# Altium footprint library IN3ATOR.PcbLib: 42 footprints (part 3 of 3)
Each footprint in its own frame and in the unit in brackets; x right, y up, seen from the top. Pads: shape width x height; smd on the part's side, far side on the other; paste and mask are expansions set on the pad; w line width, h text height; cw(c..) or ccw(c..) is an arc to the next point about the centre after c.
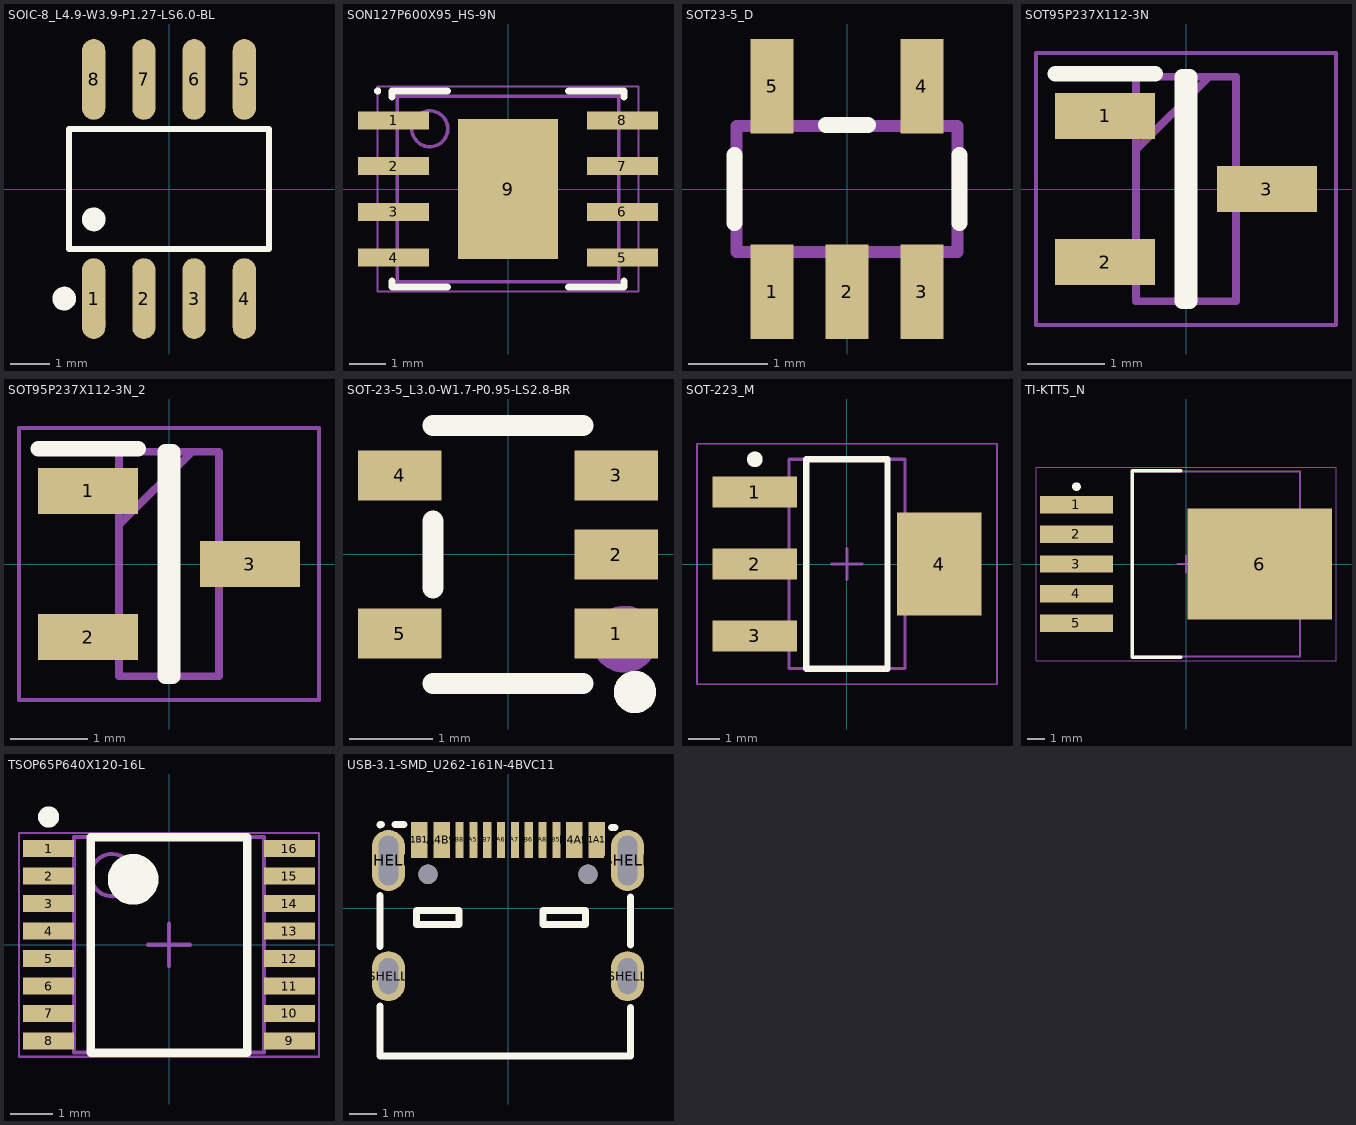
[diagram p2: the footprints below, top view; thin cyan lines are the x and y axes]

## SOIC-8_L4.9-W3.9-P1.27-LS6.0-BL [mm]
pads (8):
  oval 0.588x2.045 smd: 1(-1.905,-2.773) 2(-0.635,-2.773) 3(0.635,-2.773) 4(1.905,-2.773) 5(1.905,2.773) 6(0.635,2.773) 7(-0.635,2.773) 8(-1.905,2.773)
Top Overlay:
  circle w0.3: c-2.652,-2.772 r0.15
  circle w0.3: c-1.905,-0.769 r0.15
  lines w0.152: -2.526,-1.521 2.526,-1.521 2.526,1.521 -2.526,1.521 -2.526,-1.521
Mechanical 15:
  circle w0.3: c-1.905,-3.4 r0.15

## SON127P600X95_HS-9N [mm]
pads (9):
  rect 1.976x0.5 smd: 1(-3.183,1.905) 2(-3.183,0.635) 3(-3.183,-0.635) 4(-3.183,-1.905) 5(3.183,-1.905) 6(3.183,-0.635) 7(3.183,0.635) 8(3.183,1.905)
  rect 2.77x3.9 smd paste-1.385: 9(0,0)
Top Overlay:
  circle w0.1: c-3.625,2.725 r0.05
  lines w0.2: -3.225,-2.555 -3.225,-2.725 -1.685,-2.725 ; -3.225,2.555 -3.225,2.725 -1.685,2.725 ; 1.685,-2.725 3.225,-2.725 3.225,-2.555 ; 1.685,2.725 3.225,2.725 3.225,2.555
Top Paste:
  rectangle: -1.29,0.75 -0.1,1.85
  rectangle: -1.29,-0.55 -0.1,0.55
  rectangle: -1.29,-1.85 -0.1,-0.75
  rectangle: 0.1,0.75 1.29,1.85
  rectangle: 0.1,-0.55 1.29,0.55
  rectangle: 0.1,-1.85 1.29,-0.75
Mechanical 13:
  circle w0.1: c-2.175,1.675 r0.5
  lines w0.1: -3.075,-2.575 -3.075,2.575 3.075,2.575 3.075,-2.575 -3.075,-2.575
Mechanical 15:
  lines w0.05: -3.63,-2.85 -3.63,2.85 3.63,2.85 3.63,-2.85 -3.63,-2.85
  lines w0.1: -0.5,0 0.5,0 ; 0,-0.5 0,0.5
3D body: height 0.95, standoff 0.05, extent -3.075,-2.575 3.075,2.575

## SOT23-5_D [mm]
pads (5):
  rect 0.55x1.2 smd: 1(-0.95,-1.3) 2(0,-1.3) 3(0.95,-1.3) 4(0.95,1.3) 5(-0.95,1.3)
Top Overlay:
  lines w0.203: -1.422,-0.43 -1.422,0.43 ; -0.268,0.811 0.268,0.811 ; 1.422,-0.43 1.422,0.43
Mechanical 13:
  lines w0.152: -1.4,-0.8 1.4,-0.8 1.4,0.8 -1.4,0.8 -1.4,-0.8
3D body "SOT23-5_D.stp": height 1.45, standoff 0, extent -1.45,-1.356 1.45,1.356

## SOT95P237X112-3N [mm]
pads (3):
  rect 1.3x0.6 smd: 1(-1.05,0.95) 2(-1.05,-0.95) 3(1.05,0)
Top Overlay:
  lines w0.2: -1.7,1.5 -0.4,1.5 ; -0.05,-1.46 -0.05,1.46 0.05,1.46 0.05,-1.46 -0.05,-1.46
Mechanical 13:
  lines w0.1: -0.65,0.51 0.3,1.46 ; -0.65,-1.46 -0.65,1.46 0.65,1.46 0.65,-1.46 -0.65,-1.46
Mechanical 15:
  lines w0.05: -1.95,-1.77 -1.95,1.77 1.95,1.77 1.95,-1.77 -1.95,-1.77
3D body "IRLML6402TRPBF.stp": height 1.12, standoff 0, extent -1.185,-1.46 1.185,1.46

## SOT95P237X112-3N_2 [mm]
pads (3):
  rect 1.3x0.6 smd: 1(-1.05,0.95) 2(-1.05,-0.95) 3(1.05,0)
Top Overlay:
  lines w0.2: -1.7,1.5 -0.4,1.5 ; -0.05,-1.46 0.05,-1.46 0.05,1.46 -0.05,1.46 -0.05,-1.46
Mechanical 13:
  lines w0.1: -0.65,0.51 0.3,1.46 ; -0.65,-1.46 0.65,-1.46 0.65,1.46 -0.65,1.46 -0.65,-1.46
Mechanical 15:
  lines w0.05: -1.95,-1.77 1.95,-1.77 1.95,1.77 -1.95,1.77 -1.95,-1.77
3D body "IRLML6402TRPBF.stp": height 1.12, standoff 0, extent -1.185,-1.46 1.185,1.46

## SOT-23-5_L3.0-W1.7-P0.95-LS2.8-BR [mm]
pads (5):
  rect 1x0.6 smd: 1(1.3,-0.95) 2(1.3,0) 3(1.3,0.95) 4(-1.3,0.95) 5(-1.3,-0.95)
Top Overlay:
  circle w0.254: c1.524,-1.651 r0.127
  lines w0.254: -0.9,-1.55 0.9,-1.55 ; -0.9,-0.4 -0.9,0.4 ; -0.9,1.55 0.9,1.55
Mechanical 15:
  circle w0.4: c1.397,-1.016 r0.2

## SOT-223_M [mm]
pads (4):
  rect 2.7x1 smd: 1(-2.95,2.3) 2(-2.95,0) 3(-2.95,-2.3)
  rect 2.7x3.3 smd: 4(2.95,0)
Top Overlay:
  circle w0.25: c-2.95,3.35 r0.125
  lines w0.2: -1.3,-3.35 1.3,-3.35 1.3,3.35 -1.3,3.35 -1.3,-3.35
Mechanical 13:
  lines w0.1: -1.85,-3.35 1.85,-3.35 1.85,3.35 -1.85,3.35 -1.85,-3.35
Mechanical 15:
  lines w0.05: -4.8,-3.85 4.8,-3.85 4.8,3.85 -4.8,3.85 -4.8,-3.85
  lines w0.1: -0.5,0 0.5,0 ; 0,-0.5 0,0.5
3D body: height 1.8, standoff 0.02, extent -1.85,-3.35 1.85,3.35

## TI-KTT5_N [mm]
pads (6):
  rect 4.2x1 smd: 1(-6.3,3.4) 2(-6.3,1.7) 3(-6.3,0) 4(-6.3,-1.7) 5(-6.3,-3.4)
  rect 8.3x6.4 smd: 6(4.25,0)
Top Overlay:
  circle w0.25: c-6.3,4.45 r0.125
  lines w0.2: -0.3,-5.35 -3.1,-5.35 -3.1,5.35 -0.3,5.35
Mechanical 13:
  lines w0.1: -3.1,-5.325 6.55,-5.325 6.55,5.325 -3.1,5.325 -3.1,-5.325
Mechanical 15:
  lines w0.05: -8.625,-5.575 8.625,-5.575 8.625,5.575 -8.625,5.575 -8.625,-5.575
  lines w0.1: -0.5,0 0.5,0 ; 0,-0.5 0,0.5
3D body: height 4.83, standoff 0, extent -3.1,-5.325 6.55,5.325

## TSOP65P640X120-16L [mm]
pads (16):
  rect 1.2x0.4 smd: 1(-2.85,2.275) 2(-2.85,1.625) 3(-2.85,0.975) 4(-2.85,0.325) 5(-2.85,-0.325) 6(-2.85,-0.975) 7(-2.85,-1.625) 8(-2.85,-2.275) 9(2.85,-2.275) 10(2.85,-1.625) 11(2.85,-0.975) 12(2.85,-0.325) 13(2.85,0.325) 14(2.85,0.975) 15(2.85,1.625) 16(2.85,2.275)
Top Overlay:
  circle w0.6: c-0.85,1.55 r0.3
  circle w0.25: c-2.85,3.025 r0.125
  lines w0.2: -1.85,-2.55 1.85,-2.55 1.85,2.55 -1.85,2.55 -1.85,-2.55
Mechanical 13:
  circle w0.1: c-1.35,1.65 r0.5
  lines w0.1: -2.25,-2.55 2.25,-2.55 2.25,2.55 -2.25,2.55 -2.25,-2.55
Mechanical 15:
  lines w0.05: -3.55,-2.65 3.55,-2.65 3.55,2.65 -3.55,2.65 -3.55,-2.65
  lines w0.1: -0.5,0 0.5,0 ; 0,-0.5 0,0.5
3D body "16-TSSOP_SN74AVC4T245PWR.stp": height 1.13, standoff 0, extent -3.2,-2.5 3.2,2.5

## USB-3.1-SMD_U262-161N-4BVC11 [mm]
pads (18):
  rect 0.6x1.3 smd: A1B12(-3.2,2.461) A4B9(-2.4,2.461) B1A12(3.2,2.461) B4A9(2.4,2.461)
  rect 0.3x1.3 smd: A5(-1.25,2.461) A6(-0.25,2.461) A7(0.25,2.461) A8(1.25,2.461) B5(1.75,2.461) B6(0.75,2.461) B7(-0.75,2.461) B8(-1.75,2.461)
  oval 1.2x1.8 hole 0.7 slot 1.3 at 90 deg: SHELL(-4.32,-2.461) SHELL(4.32,-2.461)
  oval 1.2x2.2 hole 0.7 slot 1.8 at 90 deg: SHELL(-4.32,1.719) SHELL(4.32,1.719)
  round 0.7 hole 0.7 unplated: ""(-2.89,1.219) ""(2.89,1.219)
Top Overlay:
  lines w0.254: -4.62,-3.536 -4.62,-5.349 4.42,-5.349 4.42,-3.586 ; -4.62,-1.386 -4.62,0.444 ; -4.62,2.994 -4.62,3.011 -4.565,3.011 ; -4.075,3.011 -3.76,3.011 ; 3.74,2.911 3.862,2.911 ; 4.42,-1.336 4.42,0.394 ; -3.302,-0.597 -1.778,-0.597 -1.778,-0.089 -3.302,-0.089 -3.302,-0.597 ; 1.27,-0.597 2.794,-0.597 2.794,-0.089 1.27,-0.089 1.27,-0.597
Top Paste:
  region: 3.72,-2.161 3.72,-2.042 3.812,-1.822 3.98,-1.653 4.201,-1.561 4.44,-1.561 4.66,-1.653 4.829,-1.822 4.92,-2.042 4.92,-2.161 4.92,-2.761 4.92,-2.881 4.829,-3.101 4.66,-3.27 4.44,-3.361 4.201,-3.361 3.98,-3.27 3.812,-3.101 3.72,-2.881 3.72,-2.761
  region: -4.92,-2.161 -4.919,-2.043 -4.827,-1.823 -4.658,-1.656 -4.439,-1.565 -4.201,-1.565 -3.981,-1.656 -3.813,-1.823 -3.721,-2.043 -3.72,-2.161 -3.72,-2.761 -3.721,-2.88 -3.813,-3.099 -3.981,-3.267 -4.201,-3.357 -4.439,-3.357 -4.658,-3.267 -4.827,-3.099 -4.919,-2.88 -4.92,-2.761
  region: 3.72,2.219 3.72,2.338 3.812,2.559 3.98,2.727 4.201,2.819 4.44,2.819 4.66,2.727 4.829,2.559 4.92,2.338 4.92,2.219 4.92,1.219 4.92,1.099 4.829,0.879 4.66,0.71 4.44,0.619 4.201,0.619 3.98,0.71 3.812,0.879 3.72,1.099 3.72,1.219
  region: -4.92,2.219 -4.919,2.338 -4.827,2.557 -4.658,2.724 -4.439,2.815 -4.201,2.815 -3.981,2.724 -3.813,2.557 -3.721,2.338 -3.72,2.219 -3.72,1.219 -3.721,1.1 -3.813,0.881 -3.981,0.713 -4.201,0.623 -4.439,0.623 -4.658,0.713 -4.827,0.881 -4.919,1.1 -4.92,1.219
  region: 1.6,3.111 1.9,3.111 1.9,1.811 1.6,1.811
  region: 1.1,3.111 1.4,3.111 1.4,1.811 1.1,1.811
  region: 0.6,3.111 0.9,3.111 0.9,1.811 0.6,1.811
  region: 0.1,3.111 0.4,3.111 0.4,1.811 0.1,1.811
  region: -0.4,3.111 -0.1,3.111 -0.1,1.811 -0.4,1.811
  region: -0.9,3.111 -0.6,3.111 -0.6,1.811 -0.9,1.811
  region: -1.4,3.111 -1.1,3.111 -1.1,1.811 -1.4,1.811
  region: -1.9,3.111 -1.6,3.111 -1.6,1.811 -1.9,1.811
  region: 2.1,3.111 2.7,3.111 2.7,1.811 2.1,1.811
  region: 2.9,3.111 3.5,3.111 3.5,1.811 2.9,1.811
  region: -2.7,3.111 -2.1,3.111 -2.1,1.811 -2.7,1.811
  region: -3.5,3.111 -2.9,3.111 -2.9,1.811 -3.5,1.811